# Altium footprint library DIP-IC  0607.PcbLib: 26 footprints (part 2 of 2)
Each footprint in its own frame and in the unit in brackets; x right, y up, seen from the top. Pads: shape width x height; smd on the part's side, far side on the other; paste and mask are expansions set on the pad; w line width, h text height; cw(c..) or ccw(c..) is an arc to the next point about the centre after c.
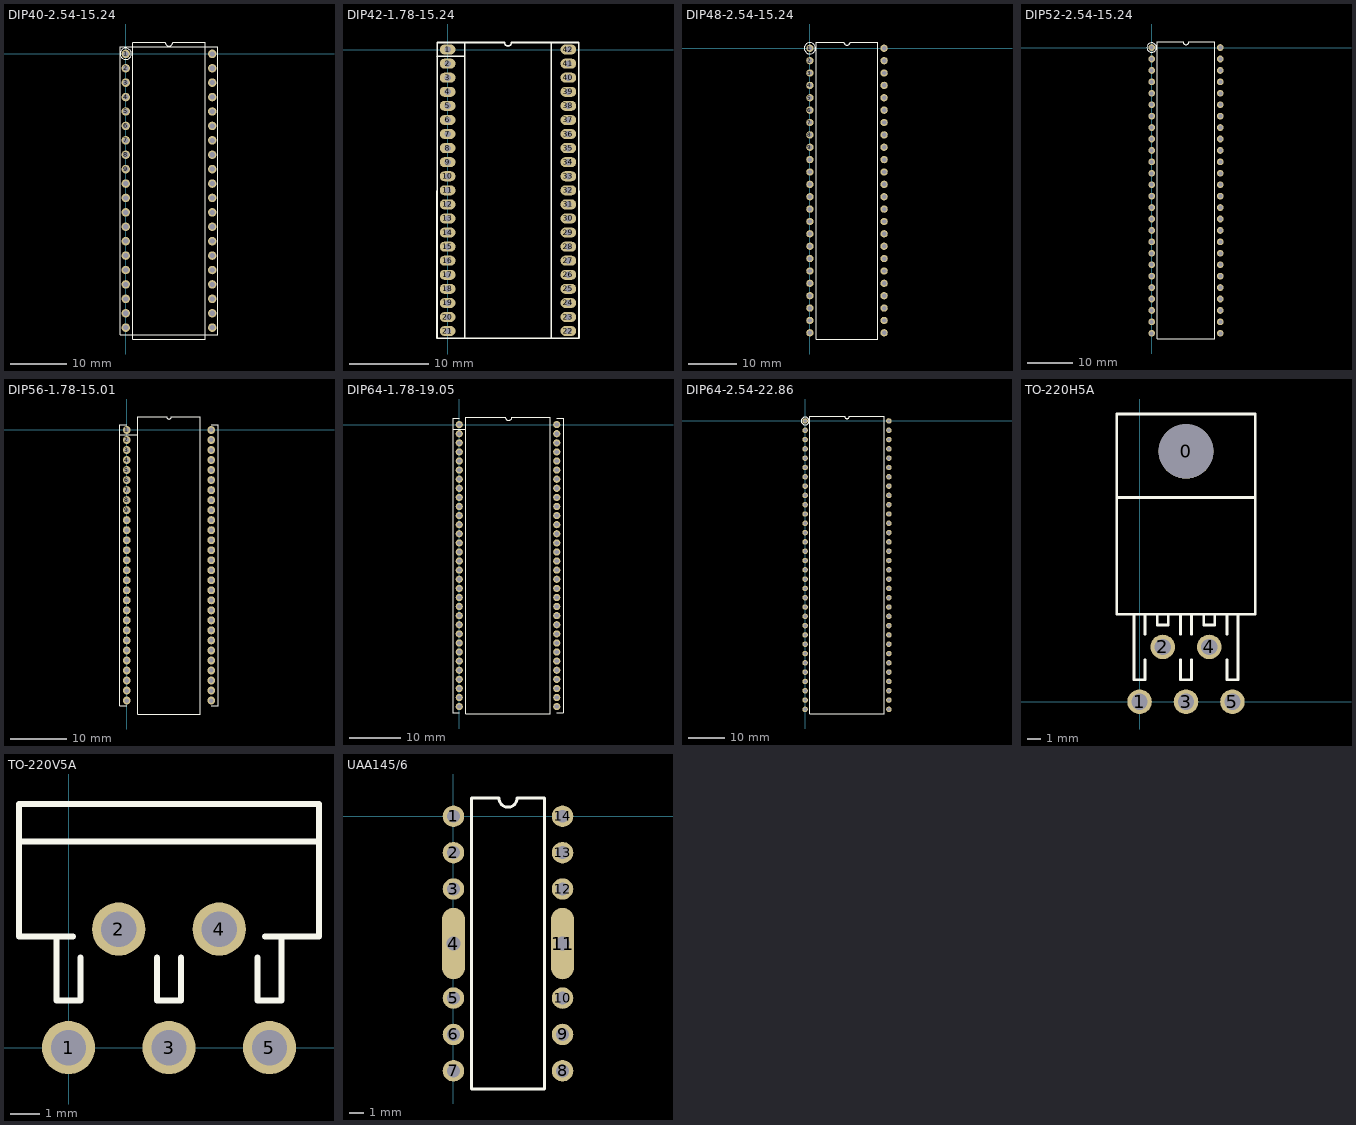
[diagram p1: the footprints below, top view; thin cyan lines are the x and y axes]

## DIP40-2.54-15.24 [mm]
pads (40):
  round 1.5 hole 0.9: 1(0,0) 2(0,-2.54) 3(0,-5.08) 4(0,-7.62) 5(0,-10.16) 6(0,-12.7) 7(0,-15.24) 8(0,-17.78) 9(0,-20.32) 10(0,-22.86) 11(0,-25.4) 12(0,-27.94) 13(0,-30.48) 14(0,-33.02) 15(0,-35.56) 16(0,-38.1) 17(0,-40.64) 18(0,-43.18) 19(0,-45.72) 20(0,-48.26) 21(15.24,-48.26) 22(15.24,-45.72) 23(15.24,-43.18) 24(15.24,-40.64) 25(15.24,-38.1) 26(15.24,-35.56) 27(15.24,-33.02) 28(15.24,-30.48) 29(15.24,-27.94) 30(15.24,-25.4) 31(15.24,-22.86) 32(15.24,-20.32) 33(15.24,-17.78) 34(15.24,-15.24) 35(15.24,-12.7) 36(15.24,-10.16) 37(15.24,-7.62) 38(15.24,-5.08) 39(15.24,-2.54) 40(15.24,0)
TopOverlay:
  circle w0.2: c0,0 r0.996
  lines w0.2: 1.27,1.97 1.27,-50.26 13.97,-50.26 13.97,1.97 ; 1.27,2 6.985,2 ; 6.985,1.981 ccw(c7.62,1.981) 8.255,1.981 ; 8.255,2 13.97,2 ; -1,-49.52 16.24,-49.52 16.24,1.26 -1,1.26 -1,-49.52
BottomOverlay:
  lines w0.99: -1.27,-46.99 1.27,-46.99 ; -1.27,-44.45 1.27,-44.45 ; -1.27,-41.91 1.27,-41.91 ; -1.27,-39.37 1.27,-39.37 ; -1.27,-36.83 1.27,-36.83 ; -1.27,-34.29 1.27,-34.29 ; -1.27,-31.75 1.27,-31.75 ; -1.27,-29.21 1.27,-29.21 ; -1.27,-26.67 1.27,-26.67 ; -1.27,-24.13 1.27,-24.13 ; -1.27,-21.59 1.27,-21.59 ; -1.27,-19.05 1.27,-19.05 ; -1.27,-16.51 1.27,-16.51 ; -1.27,-13.97 1.27,-13.97 ; -1.27,-11.43 1.27,-11.43 ; -1.27,-8.89 1.27,-8.89 ; -1.27,-6.35 1.27,-6.35 ; -1.27,-3.81 1.27,-3.81 ; -1.27,-1.27 1.27,-1.27 ; 13.97,-46.99 16.51,-46.99 ; 13.97,-44.45 16.51,-44.45 ; 13.97,-41.91 16.51,-41.91 ; 13.97,-39.37 16.51,-39.37 ; 13.97,-36.83 16.51,-36.83 ; 13.97,-34.29 16.51,-34.29 ; 13.97,-31.75 16.51,-31.75 ; 13.97,-29.21 16.51,-29.21 ; 13.97,-26.67 16.51,-26.67 ; 13.97,-24.13 16.51,-24.13 ; 13.97,-21.59 16.51,-21.59 ; 13.97,-19.05 16.51,-19.05 ; 13.97,-16.51 16.51,-16.51 ; 13.97,-13.97 16.51,-13.97 ; 13.97,-11.43 16.51,-11.43 ; 13.97,-8.89 16.51,-8.89 ; 13.97,-6.35 16.51,-6.35 ; 13.97,-3.81 16.51,-3.81 ; 13.97,-1.27 16.51,-1.27

## DIP42-1.78-15.24 [mm]
pads (42):
  oval 2x1.27 hole 0.8: 1(0,0) 2(0,-1.778) 3(0,-3.556) 4(0,-5.334) 5(0,-7.112) 6(0,-8.89) 7(0,-10.668) 8(0,-12.446) 9(0,-14.224) 10(0,-16.002) 11(0,-17.78) 12(0,-19.558) 13(0,-21.336) 14(0,-23.114) 15(0,-24.892) 16(0,-26.67) 17(0,-28.448) 18(0,-30.226) 19(0,-32.004) 20(0,-33.782) 21(0,-35.56) 22(15.24,-35.56) 23(15.24,-33.782) 24(15.24,-32.004) 25(15.24,-30.226) 26(15.24,-28.448) 27(15.24,-26.67) 28(15.24,-24.892) 29(15.24,-23.114) 30(15.24,-21.336) 31(15.24,-19.558) 32(15.24,-17.78) 33(15.24,-16.002) 34(15.24,-14.224) 35(15.24,-12.446) 36(15.24,-10.668) 37(15.24,-8.89) 38(15.24,-7.112) 39(15.24,-5.334) 40(15.24,-3.556) 41(15.24,-1.778) 42(15.24,0)
TopOverlay:
  lines w0.2: -1.346,-0.864 2.159,-0.864 ; 2.159,-36.449 -1.349,-36.449 -1.336,0.889 2.159,0.889 ; 2.159,-36.449 13.081,-36.449 ; 2.159,-36.449 2.159,0.889 ; 2.159,0.889 7.175,0.889 ccw(c7.62,0.889) 8.064,0.889 13.081,0.889 ; 13.081,-36.449 16.589,-36.449 16.576,0.889 13.081,0.889 ; 13.081,-36.449 13.081,0.889
BottomOverlay:
  lines w0.33: -1.041,-34.673 1.067,-34.673 ; -1.041,-32.893 1.067,-32.893 ; -1.041,-31.117 1.067,-31.117 ; -1.041,-29.337 1.067,-29.337 ; -1.041,-27.561 1.067,-27.561 ; -1.041,-25.781 1.067,-25.781 ; -1.041,-24.005 1.067,-24.005 ; -1.041,-22.225 1.067,-22.225 ; -1.041,-20.449 1.067,-20.449 ; -1.041,-18.669 1.067,-18.669 ; -1.041,-16.893 1.067,-16.893 ; -1.041,-15.113 1.067,-15.113 ; -1.041,-13.337 1.067,-13.337 ; -1.041,-11.557 1.067,-11.557 ; -1.041,-9.781 1.067,-9.781 ; -1.041,-8.001 1.067,-8.001 ; -1.041,-6.225 1.067,-6.225 ; -1.041,-4.445 1.067,-4.445 ; -1.041,-2.669 1.067,-2.669 ; -1.041,-0.889 1.067,-0.889 ; 14.199,-34.673 16.307,-34.673 ; 14.199,-32.893 16.307,-32.893 ; 14.199,-31.117 16.307,-31.117 ; 14.199,-29.337 16.307,-29.337 ; 14.199,-27.561 16.307,-27.561 ; 14.199,-25.781 16.307,-25.781 ; 14.199,-24.005 16.307,-24.005 ; 14.199,-22.225 16.307,-22.225 ; 14.199,-20.449 16.307,-20.449 ; 14.199,-18.669 16.307,-18.669 ; 14.199,-16.893 16.307,-16.893 ; 14.199,-15.113 16.307,-15.113 ; 14.199,-13.337 16.307,-13.337 ; 14.199,-11.557 16.307,-11.557 ; 14.199,-9.781 16.307,-9.781 ; 14.199,-8.001 16.307,-8.001 ; 14.199,-6.225 16.307,-6.225 ; 14.199,-4.445 16.307,-4.445 ; 14.199,-2.669 16.307,-2.669 ; 14.199,-0.889 16.307,-0.889

## DIP48-2.54-15.24 [mm]
pads (48):
  round 1.5 hole 0.9: 1(0,0) 2(0,-2.54) 3(0,-5.08) 4(0,-7.62) 5(0,-10.16) 6(0,-12.7) 7(0,-15.24) 8(0,-17.78) 9(0,-20.32) 10(0,-22.86) 11(0,-25.4) 12(0,-27.94) 13(0,-30.48) 14(0,-33.02) 15(0,-35.56) 16(0,-38.1) 17(0,-40.64) 18(0,-43.18) 19(0,-45.72) 20(0,-48.26) 21(0,-50.8) 22(0,-53.34) 23(0,-55.88) 24(0,-58.42) 25(15.24,-58.42) 26(15.24,-55.88) 27(15.24,-53.34) 28(15.24,-50.8) 29(15.24,-48.26) 30(15.24,-45.72) 31(15.24,-43.18) 32(15.24,-40.64) 33(15.24,-38.1) 34(15.24,-35.56) 35(15.24,-33.02) 36(15.24,-30.48) 37(15.24,-27.94) 38(15.24,-25.4) 39(15.24,-22.86) 40(15.24,-20.32) 41(15.24,-17.78) 42(15.24,-15.24) 43(15.24,-12.7) 44(15.24,-10.16) 45(15.24,-7.62) 46(15.24,-5.08) 47(15.24,-2.54) 48(15.24,0)
TopOverlay:
  circle w0.254: c0,0 r1.15
  lines w0.2: 1.27,-59.69 13.97,-59.69 13.97,1.27 8.255,1.27 cw(c7.62,1.27) 6.985,1.27 1.27,1.27 1.27,-59.69
BottomOverlay:
  lines w0.99: -1.27,-57.15 1.27,-57.15 ; -1.27,-54.61 1.27,-54.61 ; -1.27,-52.07 1.27,-52.07 ; -1.27,-49.53 1.27,-49.53 ; -1.27,-46.99 1.27,-46.99 ; -1.27,-44.45 1.27,-44.45 ; -1.27,-41.91 1.27,-41.91 ; -1.27,-39.37 1.27,-39.37 ; -1.27,-36.83 1.27,-36.83 ; -1.27,-34.29 1.27,-34.29 ; -1.27,-31.75 1.27,-31.75 ; -1.27,-29.21 1.27,-29.21 ; -1.27,-26.67 1.27,-26.67 ; -1.27,-24.13 1.27,-24.13 ; -1.27,-21.59 1.27,-21.59 ; -1.27,-19.05 1.27,-19.05 ; -1.27,-16.51 1.27,-16.51 ; -1.27,-13.97 1.27,-13.97 ; -1.27,-11.43 1.27,-11.43 ; -1.27,-8.89 1.27,-8.89 ; -1.27,-6.35 1.27,-6.35 ; -1.27,-3.81 1.27,-3.81 ; -1.27,-1.27 1.27,-1.27 ; 13.97,-57.15 16.51,-57.15 ; 13.97,-54.61 16.51,-54.61 ; 13.97,-52.07 16.51,-52.07 ; 13.97,-49.53 16.51,-49.53 ; 13.97,-46.99 16.51,-46.99 ; 13.97,-44.45 16.51,-44.45 ; 13.97,-41.91 16.51,-41.91 ; 13.97,-39.37 16.51,-39.37 ; 13.97,-36.83 16.51,-36.83 ; 13.97,-34.29 16.51,-34.29 ; 13.97,-31.75 16.51,-31.75 ; 13.97,-29.21 16.51,-29.21 ; 13.97,-26.67 16.51,-26.67 ; 13.97,-24.13 16.51,-24.13 ; 13.97,-21.59 16.51,-21.59 ; 13.97,-19.05 16.51,-19.05 ; 13.97,-16.51 16.51,-16.51 ; 13.97,-13.97 16.51,-13.97 ; 13.97,-11.43 16.51,-11.43 ; 13.97,-8.89 16.51,-8.89 ; 13.97,-6.35 16.51,-6.35 ; 13.97,-3.81 16.51,-3.81 ; 13.97,-1.27 16.51,-1.27

## DIP52-2.54-15.24 [mm]
pads (52):
  round 1.5 hole 0.9: 1(0,0) 2(0,-2.54) 3(0,-5.08) 4(0,-7.62) 5(0,-10.16) 6(0,-12.7) 7(0,-15.24) 8(0,-17.78) 9(0,-20.32) 10(0,-22.86) 11(0,-25.4) 12(0,-27.94) 13(0,-30.48) 14(0,-33.02) 15(0,-35.56) 16(0,-38.1) 17(0,-40.64) 18(0,-43.18) 19(0,-45.72) 20(0,-48.26) 21(0,-50.8) 22(0,-53.34) 23(0,-55.88) 24(0,-58.42) 25(0,-60.96) 26(0,-63.5) 27(15.24,-63.5) 28(15.24,-60.96) 29(15.24,-58.42) 30(15.24,-55.88) 31(15.24,-53.34) 32(15.24,-50.8) 33(15.24,-48.26) 34(15.24,-45.72) 35(15.24,-43.18) 36(15.24,-40.64) 37(15.24,-38.1) 38(15.24,-35.56) 39(15.24,-33.02) 40(15.24,-30.48) 41(15.24,-27.94) 42(15.24,-25.4) 43(15.24,-22.86) 44(15.24,-20.32) 45(15.24,-17.78) 46(15.24,-15.24) 47(15.24,-12.7) 48(15.24,-10.16) 49(15.24,-7.62) 50(15.24,-5.08) 51(15.24,-2.54) 52(15.24,0)
TopOverlay:
  circle w0.254: c0,0 r1.052
  lines w0.2: 1.27,-64.77 1.27,1.27 6.985,1.27 ccw(c7.62,1.27) 8.255,1.27 13.97,1.27 13.97,-64.77 1.27,-64.77
BottomOverlay:
  lines w0.99: -1.27,-62.23 1.27,-62.23 ; -1.27,-59.69 1.27,-59.69 ; -1.27,-57.15 1.27,-57.15 ; -1.27,-54.61 1.27,-54.61 ; -1.27,-52.07 1.27,-52.07 ; -1.27,-49.53 1.27,-49.53 ; -1.27,-46.99 1.27,-46.99 ; -1.27,-44.45 1.27,-44.45 ; -1.27,-41.91 1.27,-41.91 ; -1.27,-39.37 1.27,-39.37 ; -1.27,-36.83 1.27,-36.83 ; -1.27,-34.29 1.27,-34.29 ; -1.27,-31.75 1.27,-31.75 ; -1.27,-29.21 1.27,-29.21 ; -1.27,-26.67 1.27,-26.67 ; -1.27,-24.13 1.27,-24.13 ; -1.27,-21.59 1.27,-21.59 ; -1.27,-19.05 1.27,-19.05 ; -1.27,-16.51 1.27,-16.51 ; -1.27,-13.97 1.27,-13.97 ; -1.27,-11.43 1.27,-11.43 ; -1.27,-8.89 1.27,-8.89 ; -1.27,-6.35 1.27,-6.35 ; -1.27,-3.81 1.27,-3.81 ; -1.27,-1.27 1.27,-1.27 ; 13.97,-62.23 16.51,-62.23 ; 13.97,-59.69 16.51,-59.69 ; 13.97,-57.15 16.51,-57.15 ; 13.97,-54.61 16.51,-54.61 ; 13.97,-52.07 16.51,-52.07 ; 13.97,-49.53 16.51,-49.53 ; 13.97,-46.99 16.51,-46.99 ; 13.97,-44.45 16.51,-44.45 ; 13.97,-41.91 16.51,-41.91 ; 13.97,-39.37 16.51,-39.37 ; 13.97,-36.83 16.51,-36.83 ; 13.97,-34.29 16.51,-34.29 ; 13.97,-31.75 16.51,-31.75 ; 13.97,-29.21 16.51,-29.21 ; 13.97,-26.67 16.51,-26.67 ; 13.97,-24.13 16.51,-24.13 ; 13.97,-21.59 16.51,-21.59 ; 13.97,-19.05 16.51,-19.05 ; 13.97,-16.51 16.51,-16.51 ; 13.97,-13.97 16.51,-13.97 ; 13.97,-11.43 16.51,-11.43 ; 13.97,-8.89 16.51,-8.89 ; 13.97,-6.35 16.51,-6.35 ; 13.97,-3.81 16.51,-3.81 ; 13.97,-1.27 16.51,-1.27

## DIP56-1.78-15.01 [mm]
pads (56):
  round 1.4 hole 0.8: 1(0,0) 2(0,-1.78) 3(0,-3.56) 4(0,-5.34) 5(0,-7.12) 6(0,-8.9) 7(0,-10.68) 8(0,-12.46) 9(0,-14.24) 10(0,-16.02) 11(0,-17.8) 12(0,-19.58) 13(0,-21.36) 14(0,-23.14) 15(0,-24.92) 16(0,-26.7) 17(0,-28.48) 18(0,-30.26) 19(0,-32.04) 20(0,-33.82) 21(0,-35.6) 22(0,-37.38) 23(0,-39.16) 24(0,-40.94) 25(0,-42.72) 26(0,-44.5) 27(0,-46.28) 28(0,-48.06) 29(15.01,-48.06) 30(15.01,-46.28) 31(15.01,-44.5) 32(15.01,-42.72) 33(15.01,-40.94) 34(15.01,-39.16) 35(15.01,-37.38) 36(15.01,-35.6) 37(15.01,-33.82) 38(15.01,-32.04) 39(15.01,-30.26) 40(15.01,-28.48) 41(15.01,-26.7) 42(15.01,-24.92) 43(15.01,-23.14) 44(15.01,-21.36) 45(15.01,-19.58) 46(15.01,-17.8) 47(15.01,-16.02) 48(15.01,-14.24) 49(15.01,-12.46) 50(15.01,-10.68) 51(15.01,-8.9) 52(15.01,-7.12) 53(15.01,-5.34) 54(15.01,-3.56) 55(15.01,-1.78) 56(15.01,0)
TopOverlay:
  lines w0.2: -1.2,-0.864 1.96,-0.864 1.985,-0.838 ; 0,-48.96 -1.2,-48.96 -1.2,0.9 0,0.9 ; 15.01,-48.96 16.21,-48.96 16.21,0.9 15.01,0.9 ; 1.985,-50.45 1.985,2.39 7.06,2.39 ccw(c7.505,2.39) 7.95,2.39 13.025,2.39 13.025,-50.45 1.985,-50.45
BottomOverlay:
  lines w0.33: -1.041,-47.169 1.067,-47.169 ; -1.041,-45.389 1.067,-45.389 ; -1.041,-43.609 1.067,-43.609 ; -1.041,-41.829 1.067,-41.829 ; -1.041,-40.049 1.067,-40.049 ; -1.041,-38.269 1.067,-38.269 ; -1.041,-36.489 1.067,-36.489 ; -1.041,-34.709 1.067,-34.709 ; -1.041,-32.929 1.067,-32.929 ; -1.041,-31.149 1.067,-31.149 ; -1.041,-29.369 1.067,-29.369 ; -1.041,-27.589 1.067,-27.589 ; -1.041,-25.809 1.067,-25.809 ; -1.041,-24.029 1.067,-24.029 ; -1.041,-22.249 1.067,-22.249 ; -1.041,-20.469 1.067,-20.469 ; -1.041,-18.689 1.067,-18.689 ; -1.041,-16.909 1.067,-16.909 ; -1.041,-15.129 1.067,-15.129 ; -1.041,-13.349 1.067,-13.349 ; -1.041,-11.569 1.067,-11.569 ; -1.041,-9.789 1.067,-9.789 ; -1.041,-8.009 1.067,-8.009 ; -1.041,-6.229 1.067,-6.229 ; -1.041,-4.449 1.067,-4.449 ; -1.041,-2.669 1.067,-2.669 ; -1.041,-0.889 1.067,-0.889 ; 13.969,-47.169 16.077,-47.169 ; 13.969,-45.389 16.077,-45.389 ; 13.969,-43.609 16.077,-43.609 ; 13.969,-41.829 16.077,-41.829 ; 13.969,-40.049 16.077,-40.049 ; 13.969,-38.269 16.077,-38.269 ; 13.969,-36.489 16.077,-36.489 ; 13.969,-34.709 16.077,-34.709 ; 13.969,-32.929 16.077,-32.929 ; 13.969,-31.149 16.077,-31.149 ; 13.969,-29.369 16.077,-29.369 ; 13.969,-27.589 16.077,-27.589 ; 13.969,-25.809 16.077,-25.809 ; 13.969,-24.029 16.077,-24.029 ; 13.969,-22.249 16.077,-22.249 ; 13.969,-20.469 16.077,-20.469 ; 13.969,-18.689 16.077,-18.689 ; 13.969,-16.909 16.077,-16.909 ; 13.969,-15.129 16.077,-15.129 ; 13.969,-13.349 16.077,-13.349 ; 13.969,-11.569 16.077,-11.569 ; 13.969,-9.789 16.077,-9.789 ; 13.969,-8.009 16.077,-8.009 ; 13.969,-6.229 16.077,-6.229 ; 13.969,-4.449 16.077,-4.449 ; 13.969,-2.669 16.077,-2.669 ; 13.969,-0.889 16.077,-0.889

## DIP64-1.78-19.05 [mm]
pads (64):
  round 1.4 hole 0.8: 1(0,0) 2(0,-1.778) 3(0,-3.556) 4(0,-5.334) 5(0,-7.112) 6(0,-8.89) 7(0,-10.668) 8(0,-12.446) 9(0,-14.224) 10(0,-16.002) 11(0,-17.78) 12(0,-19.558) 13(0,-21.336) 14(0,-23.114) 15(0,-24.892) 16(0,-26.67) 17(0,-28.448) 18(0,-30.226) 19(0,-32.004) 20(0,-33.782) 21(0,-35.56) 22(0,-37.338) 23(0,-39.116) 24(0,-40.894) 25(0,-42.672) 26(0,-44.45) 27(0,-46.228) 28(0,-48.006) 29(0,-49.784) 30(0,-51.562) 31(0,-53.34) 32(0,-55.118) 33(19.05,-55.118) 34(19.05,-53.34) 35(19.05,-51.562) 36(19.05,-49.784) 37(19.05,-48.006) 38(19.05,-46.228) 39(19.05,-44.45) 40(19.05,-42.672) 41(19.05,-40.894) 42(19.05,-39.116) 43(19.05,-37.338) 44(19.05,-35.56) 45(19.05,-33.782) 46(19.05,-32.004) 47(19.05,-30.226) 48(19.05,-28.448) 49(19.05,-26.67) 50(19.05,-24.892) 51(19.05,-23.114) 52(19.05,-21.336) 53(19.05,-19.558) 54(19.05,-17.78) 55(19.05,-16.002) 56(19.05,-14.224) 57(19.05,-12.446) 58(19.05,-10.668) 59(19.05,-8.89) 60(19.05,-7.112) 61(19.05,-5.334) 62(19.05,-3.556) 63(19.05,-1.778) 64(19.05,0)
TopOverlay:
  lines w0.2: -1.245,-0.889 1.27,-0.889 ; -0.025,-56.358 -1.24,-56.358 -1.25,1.24 0,1.24 ; 1.27,-56.56 17.78,-56.56 ; 1.27,-56.515 1.27,1.44 9.017,1.44 ccw(c9.652,1.44) 10.287,1.44 17.772,1.44 ; 17.78,-56.515 17.78,1.44 ; 19.025,-56.358 20.3,-56.358 20.29,1.24 19.025,1.24
BottomOverlay:
  lines w0.33: -1.041,-54.229 1.067,-54.229 ; -1.041,-52.451 1.067,-52.451 ; -1.041,-50.673 1.067,-50.673 ; -1.041,-48.895 1.067,-48.895 ; -1.041,-47.117 1.067,-47.117 ; -1.041,-45.339 1.067,-45.339 ; -1.041,-43.561 1.067,-43.561 ; -1.041,-41.783 1.067,-41.783 ; -1.041,-40.005 1.067,-40.005 ; -1.041,-38.227 1.067,-38.227 ; -1.041,-36.449 1.067,-36.449 ; -1.041,-34.671 1.067,-34.671 ; -1.041,-32.893 1.067,-32.893 ; -1.041,-31.115 1.067,-31.115 ; -1.041,-29.337 1.067,-29.337 ; -1.041,-27.559 1.067,-27.559 ; -1.041,-25.781 1.067,-25.781 ; -1.041,-24.003 1.067,-24.003 ; -1.041,-22.225 1.067,-22.225 ; -1.041,-20.447 1.067,-20.447 ; -1.041,-18.669 1.067,-18.669 ; -1.041,-16.891 1.067,-16.891 ; -1.041,-15.113 1.067,-15.113 ; -1.041,-13.335 1.067,-13.335 ; -1.041,-11.557 1.067,-11.557 ; -1.041,-9.779 1.067,-9.779 ; -1.041,-8.001 1.067,-8.001 ; -1.041,-6.223 1.067,-6.223 ; -1.041,-4.445 1.067,-4.445 ; -1.041,-2.667 1.067,-2.667 ; -1.041,-0.889 1.067,-0.889 ; 18.009,-54.229 20.117,-54.229 ; 18.009,-52.451 20.117,-52.451 ; 18.009,-50.673 20.117,-50.673 ; 18.009,-48.895 20.117,-48.895 ; 18.009,-47.117 20.117,-47.117 ; 18.009,-45.339 20.117,-45.339 ; 18.009,-43.561 20.117,-43.561 ; 18.009,-41.783 20.117,-41.783 ; 18.009,-40.005 20.117,-40.005 ; 18.009,-38.227 20.117,-38.227 ; 18.009,-36.449 20.117,-36.449 ; 18.009,-34.671 20.117,-34.671 ; 18.009,-32.893 20.117,-32.893 ; 18.009,-31.115 20.117,-31.115 ; 18.009,-29.337 20.117,-29.337 ; 18.009,-27.559 20.117,-27.559 ; 18.009,-25.781 20.117,-25.781 ; 18.009,-24.003 20.117,-24.003 ; 18.009,-22.225 20.117,-22.225 ; 18.009,-20.447 20.117,-20.447 ; 18.009,-18.669 20.117,-18.669 ; 18.009,-16.891 20.117,-16.891 ; 18.009,-15.113 20.117,-15.113 ; 18.009,-13.335 20.117,-13.335 ; 18.009,-11.557 20.117,-11.557 ; 18.009,-9.779 20.117,-9.779 ; 18.009,-8.001 20.117,-8.001 ; 18.009,-6.223 20.117,-6.223 ; 18.009,-4.445 20.117,-4.445 ; 18.009,-2.667 20.117,-2.667 ; 18.009,-0.889 20.117,-0.889

## DIP64-2.54-22.86 [mm]
pads (64):
  round 1.5 hole 0.9: 1(0,0) 2(0,-2.54) 3(0,-5.08) 4(0,-7.62) 5(0,-10.16) 6(0,-12.7) 7(0,-15.24) 8(0,-17.78) 9(0,-20.32) 10(0,-22.86) 11(0,-25.4) 12(0,-27.94) 13(0,-30.48) 14(0,-33.02) 15(0,-35.56) 16(0,-38.1) 17(0,-40.64) 18(0,-43.18) 19(0,-45.72) 20(0,-48.26) 21(0,-50.8) 22(0,-53.34) 23(0,-55.88) 24(0,-58.42) 25(0,-60.96) 26(0,-63.5) 27(0,-66.04) 28(0,-68.58) 29(0,-71.12) 30(0,-73.66) 31(0,-76.2) 32(0,-78.74) 33(22.86,-78.74) 34(22.86,-76.2) 35(22.86,-73.66) 36(22.86,-71.12) 37(22.86,-68.58) 38(22.86,-66.04) 39(22.86,-63.5) 40(22.86,-60.96) 41(22.86,-58.42) 42(22.86,-55.88) 43(22.86,-53.34) 44(22.86,-50.8) 45(22.86,-48.26) 46(22.86,-45.72) 47(22.86,-43.18) 48(22.86,-40.64) 49(22.86,-38.1) 50(22.86,-35.56) 51(22.86,-33.02) 52(22.86,-30.48) 53(22.86,-27.94) 54(22.86,-25.4) 55(22.86,-22.86) 56(22.86,-20.32) 57(22.86,-17.78) 58(22.86,-15.24) 59(22.86,-12.7) 60(22.86,-10.16) 61(22.86,-7.62) 62(22.86,-5.08) 63(22.86,-2.54) 64(22.86,0)
TopOverlay:
  circle w0.254: c0,0 r1.063
  lines w0.2: 1.27,-80.01 1.27,1.27 10.795,1.27 ccw(c11.43,1.27) 12.065,1.27 21.59,1.27 21.59,-80.01 1.27,-80.01
BottomOverlay:
  lines w0.99: -1.27,-77.47 1.27,-77.47 ; -1.27,-74.93 1.27,-74.93 ; -1.27,-72.39 1.27,-72.39 ; -1.27,-69.85 1.27,-69.85 ; -1.27,-67.31 1.27,-67.31 ; -1.27,-64.77 1.27,-64.77 ; -1.27,-62.23 1.27,-62.23 ; -1.27,-59.69 1.27,-59.69 ; -1.27,-57.15 1.27,-57.15 ; -1.27,-54.61 1.27,-54.61 ; -1.27,-52.07 1.27,-52.07 ; -1.27,-49.53 1.27,-49.53 ; -1.27,-46.99 1.27,-46.99 ; -1.27,-44.45 1.27,-44.45 ; -1.27,-41.91 1.27,-41.91 ; -1.27,-39.37 1.27,-39.37 ; -1.27,-36.83 1.27,-36.83 ; -1.27,-34.29 1.27,-34.29 ; -1.27,-31.75 1.27,-31.75 ; -1.27,-29.21 1.27,-29.21 ; -1.27,-26.67 1.27,-26.67 ; -1.27,-24.13 1.27,-24.13 ; -1.27,-21.59 1.27,-21.59 ; -1.27,-19.05 1.27,-19.05 ; -1.27,-16.51 1.27,-16.51 ; -1.27,-13.97 1.27,-13.97 ; -1.27,-11.43 1.27,-11.43 ; -1.27,-8.89 1.27,-8.89 ; -1.27,-6.35 1.27,-6.35 ; -1.27,-3.81 1.27,-3.81 ; -1.27,-1.27 1.27,-1.27 ; 21.59,-77.47 24.13,-77.47 ; 21.59,-74.93 24.13,-74.93 ; 21.59,-72.39 24.13,-72.39 ; 21.59,-69.85 24.13,-69.85 ; 21.59,-67.31 24.13,-67.31 ; 21.59,-64.77 24.13,-64.77 ; 21.59,-62.23 24.13,-62.23 ; 21.59,-59.69 24.13,-59.69 ; 21.59,-57.15 24.13,-57.15 ; 21.59,-54.61 24.13,-54.61 ; 21.59,-52.07 24.13,-52.07 ; 21.59,-49.53 24.13,-49.53 ; 21.59,-46.99 24.13,-46.99 ; 21.59,-44.45 24.13,-44.45 ; 21.59,-41.91 24.13,-41.91 ; 21.59,-39.37 24.13,-39.37 ; 21.59,-36.83 24.13,-36.83 ; 21.59,-34.29 24.13,-34.29 ; 21.59,-31.75 24.13,-31.75 ; 21.59,-29.21 24.13,-29.21 ; 21.59,-26.67 24.13,-26.67 ; 21.59,-24.13 24.13,-24.13 ; 21.59,-21.59 24.13,-21.59 ; 21.59,-19.05 24.13,-19.05 ; 21.59,-16.51 24.13,-16.51 ; 21.59,-13.97 24.13,-13.97 ; 21.59,-11.43 24.13,-11.43 ; 21.59,-8.89 24.13,-8.89 ; 21.59,-6.35 24.13,-6.35 ; 21.59,-3.81 24.13,-3.81 ; 21.59,-1.27 24.13,-1.27

## TO-220H5A [mm]
pads (6):
  round 4 hole 4: 0(3.404,18.339)
  round 1.8 hole 1.2: 1(0,0) 2(1.702,4.013) 3(3.404,0) 4(5.105,4.013) 5(6.807,0)
TopOverlay:
  lines w0.2: -1.676,14.961 8.484,14.961 ; -0.406,6.401 -0.406,1.6 0.406,1.6 0.406,3.073 ; 0.406,4.953 0.406,6.401 ; 1.295,6.401 1.295,5.613 2.108,5.613 2.108,6.401 ; 2.997,3.073 2.997,1.6 3.81,1.6 3.81,3.073 ; 2.997,4.953 2.997,6.401 ; 3.81,4.953 3.81,6.401 ; 4.699,6.401 4.699,5.613 5.512,5.613 5.512,6.401 ; 6.401,3.073 6.401,1.6 7.214,1.6 7.214,6.401 ; 6.401,4.953 6.401,6.401 ; -1.676,6.401 -1.676,21.082 8.484,21.082 8.484,6.401 -1.676,6.401

## TO-220V5A [mm]
pads (5):
  round 1.8 hole 1.2: 1(0,0) 2(1.702,4.013) 3(3.404,0) 4(5.105,4.013) 5(6.807,0)
TopOverlay:
  lines w0.2: -1.676,6.985 8.484,6.985 ; -0.406,3.759 -0.406,1.6 0.406,1.6 0.406,3.048 ; 0.152,3.759 -1.676,3.759 -1.676,8.255 8.484,8.255 8.484,3.759 6.655,3.759 ; 2.997,3.048 2.997,1.6 3.81,1.6 3.81,3.048 ; 6.401,3.048 6.401,1.6 7.214,1.6 7.214,3.759

## UAA145/6 [mm]
pads (14):
  round 1.5 hole 0.9: 1(0,0) 2(0,-2.54) 3(0,-5.08) 5(0,-12.7) 6(0,-15.24) 7(0,-17.78) 8(7.62,-17.78) 9(7.62,-15.24) 10(7.62,-12.7) 12(7.62,-5.08) 13(7.62,-2.54) 14(7.62,0)
  oval 1.6x5 hole 1: 4(0,-8.89) 11(7.62,-8.89)
TopOverlay:
  lines w0.2: 1.27,-19.05 1.27,1.27 3.175,1.27 ccw(c3.81,1.27) 4.445,1.27 6.35,1.27 6.35,-19.05 1.27,-19.05
DrillDrawing:
  lines w0.2: -0.5,-10.39 ccw(c0,-10.39) 0.5,-10.39 0.5,-7.39 ccw(c0,-7.39) -0.5,-7.39 -0.5,-10.39 ; 7.12,-10.39 ccw(c7.62,-10.39) 8.12,-10.397 8.12,-7.39 ccw(c7.62,-7.39) 7.12,-7.39 7.12,-10.39
  text "1X4" at 6.858,-10.16 h1.3
  text "1X4" at 2.032,-10.16 h1.3